# EAGLE library part FUSB302 (library ICs)
Programmable USB Type‐C Controller w/PD
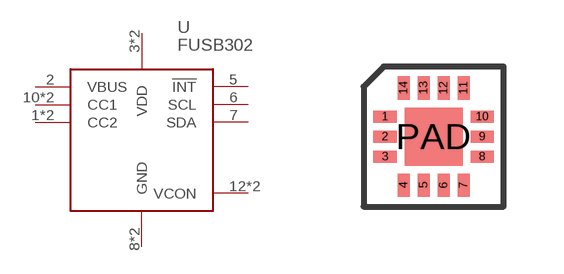
[diagram p244: symbol with the pads of MLP14; footprint MLP14]

Designator prefix U

## FUSB302BMPX (DIGIKEY: FUSB302BMPXCT-ND; HEIGHT: 1; PRICE_PER: 0.94; VALUE: FUSB302B)  [MLP14]
1  CC2
2  VBUS
3  VDD
4  VDD
5  !INT
6  SCL
7  SDA
8  GND
9  GND
10  CC1
11  CC1
12  VCON
13  VCON
14  CC2

## Footprint MLP14 (pad centres in mm)
smd 0.58 x 0.3: 1 -1.215,0.5; 2 -1.215,0; 3 -1.215,-0.5; 8 1.215,-0.5; 9 1.215,0; 10 1.215,0.5
smd 0.3 x 0.58: 4 -0.75,-1.215; 5 -0.25,-1.215; 6 0.25,-1.215; 7 0.75,-1.215; 11 0.75,1.215; 12 0.25,1.215; 13 -0.25,1.215; 14 -0.75,1.215
smd 1.45 x 1.45: PAD 0,0